# Altium integrated library Texas Instruments Power Management PWM Controller.IntLib: 1227 symbols (part 4 of 49)
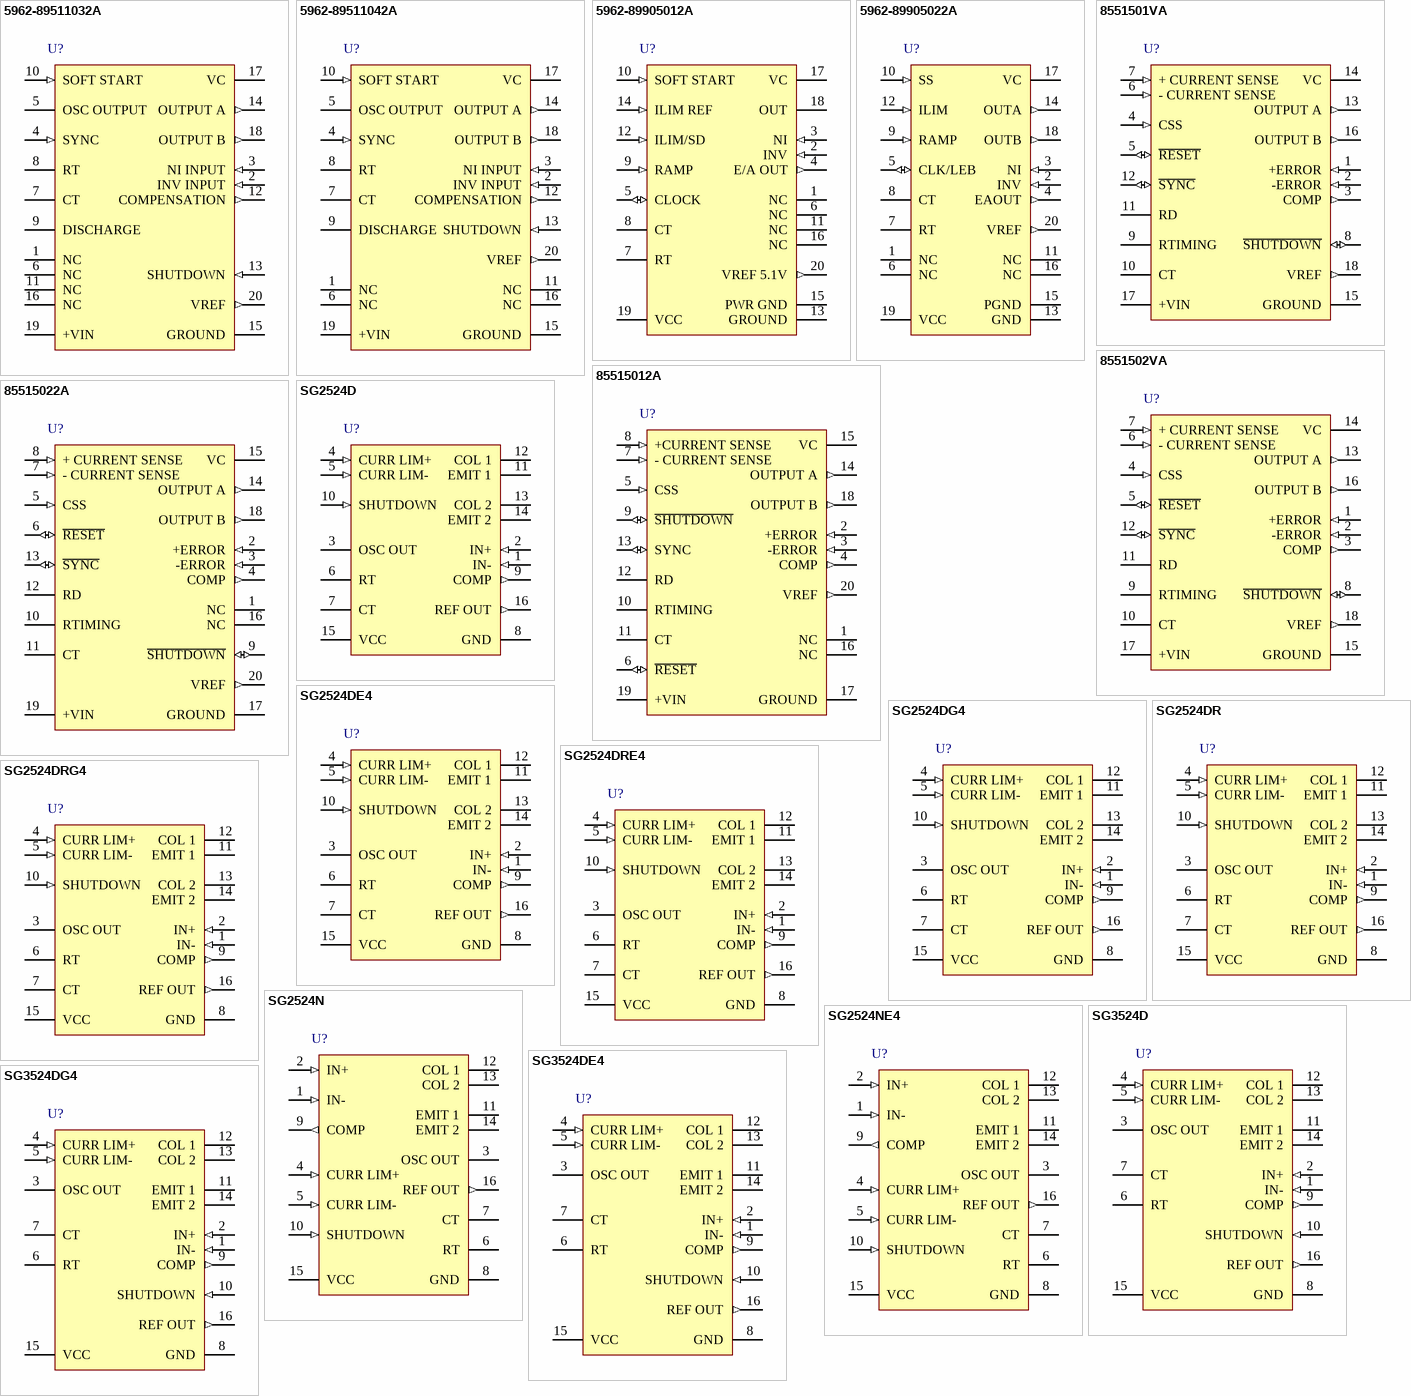
[diagram p46: symbols 5962-89511032A to SG3524DG4]

## SG2524N
designator U?
Regulating Pulse-Width Modulator with Voltage Control, 45 % Duty Cycle, -25 to +85 degC, 16-pin PDIP (N), Pb-Free (RoHS); PartNumber: SG2524N; Manufacturer: Texas Instruments; Duty Cycle(Max)(%): 45; Frequency(Max)(kHz): 722; Rating: Catalog; Regulated Outputs(#): 2; SubFamily: PWM Controller; Topology: Boost, Buck, Flyback, Forward, Full-Bridge, Half-Bridge, Push-Pull; DatasheetVersion: SLVS077D; PackageVersion: revE, Dec-2002; PackageReference: N16; PackageDescription: 16-Pin Plastic Dual-In-Line Package, Row Spacing 7.62 mm, Pitch 2.54 mm; Supplier 1: Digi-Key; Supplier Part Number 1: 296-9685-5-ND; Supplier 2: Farnell; Supplier Part Number 2: 1564865; Supplier 3: Newark; Supplier Part Number 3: 60K6775; Supplier 4: Mouser; Supplier Part Number 4: 595-SG2524N; Control Method: Voltage; Eco-Plan: Pb-Free (RoHS); Mounting Technology: Through Hole; Code_JEDEC: MS-001*; ComponentLink1Description: Datasheet; ComponentLink1URL: http://www.ti.com/general/docs/lit/getliterature.tsp?genericPartNumber=SG2524&fileType=pdf
footprint N16 (DIP, 16-Leads, Row Spacing 7.62mm, Pitch 2.54mm, Body 19.3x6.4mm)
pins: 1 IN- (in), 2 IN+ (in), 3 OSC OUT, 4 CURR LIM+ (in), 5 CURR LIM- (in), 6 RT, 7 CT, 8 GND (power), 9 COMP (out), 10 SHUTDOWN (in), 11 EMIT 1, 12 COL 1, 13 COL 2, 14 EMIT 2, 15 VCC (power), 16 REF OUT (out)

## SG2524NE4
designator U?
Regulating Pulse-Width Modulator with Voltage Control, 99 % Duty Cycle, -40 to +85 degC, 16-pin PDIP (N), Green (RoHS & no Sb/Br); PartNumber: SG2524NE4; Manufacturer: Texas Instruments; Duty Cycle(Max)(%): 45; Eco-Plan: Pb-Free (RoHS); Frequency(Max)(kHz): 722; Rating: Catalog; Regulated Outputs(#): 2; SubFamily: PWM Controller; Topology: Boost, Buck, Flyback, Forward, Full-Bridge, Half-Bridge, Push-Pull; DatasheetVersion: SLVS077D; PackageVersion: revE, Dec-2002; PackageReference: N16; PackageDescription: 16-Pin Plastic Dual-In-Line Package, Row Spacing 7.62 mm, Pitch 2.54 mm; Supplier 1: Digi-Key; Supplier Part Number 1: SG2524NE4-ND; Supplier 2: Newark; Supplier Part Number 2: 37K0799; Supplier 3: Mouser; Supplier Part Number 3: 595-SG2524NE4; Control Method: Voltage; Mounting Technology: Through Hole; Code_JEDEC: MS-001*; ComponentLink1Description: Datasheet; ComponentLink1URL: http://www.ti.com/general/docs/lit/getliterature.tsp?genericPartNumber=SG2524&fileType=pdf
footprint N16 (DIP, 16-Leads, Row Spacing 7.62mm, Pitch 2.54mm, Body 19.3x6.4mm)
pins: 1 IN- (in), 2 IN+ (in), 3 OSC OUT, 4 CURR LIM+ (in), 5 CURR LIM- (in), 6 RT, 7 CT, 8 GND (power), 9 COMP (out), 10 SHUTDOWN (in), 11 EMIT 1, 12 COL 1, 13 COL 2, 14 EMIT 2, 15 VCC (power), 16 REF OUT (out)

## SG3524D
designator U?
Regulating Pulse-Width Modulator with Voltage Control, 45 % Duty Cycle, 0 to +70 degC, 16-pin SOIC (D), Green (RoHS & no Sb/Br); PartNumber: SG3524D; Manufacturer: Texas Instruments; Duty Cycle(Max)(%): 45; Frequency(Max)(kHz): 722; Rating: Catalog; Regulated Outputs(#): 2; SubFamily: PWM Controller; Topology: Boost, Buck, Flyback, Forward, Full-Bridge, Half-Bridge, Push-Pull; DatasheetVersion: SLVS077D; PackageVersion: revM, Jun-2011; PackageReference: D16; PackageDescription: 16-Pin Plastic Small Outline Integrated Circuit, 9.9 x 3.9 mm, Pitch 1.27 mm Pitch; Supplier 1: Digi-Key; Supplier Part Number 1: 296-9686-5-ND; Supplier 2: Farnell; Supplier Part Number 2: 1103188; Supplier 3: Newark; Supplier Part Number 3: 97K9739; Supplier 4: Mouser; Supplier Part Number 4: 595-SG3524D; Control Method: Voltage; Eco-Plan: Green (RoHS & no Sb/Br); Mounting Technology: Surface Mount; Code_JEDEC: MS-012AC; ComponentLink1Description: Datasheet; ComponentLink1URL: http://www.ti.com/general/docs/lit/getliterature.tsp?genericPartNumber=SG3524&fileType=pdf
footprint D16_N (SOIC, 16-Leads, Body 9.9x3.9mm, Pitch 1.27mm, IPC Medium Density)
footprint D16_L (SOIC, 16-Leads, Body 9.9x3.9mm, Pitch 1.27mm, IPC High Density)
footprint D16_M (SOIC, 16-Leads, Body 9.9x3.9mm, Pitch 1.27mm, IPC Low Density)
pins: 1 IN- (in), 2 IN+ (in), 3 OSC OUT, 4 CURR LIM+ (in), 5 CURR LIM- (in), 6 RT, 7 CT, 8 GND (power), 9 COMP (out), 10 SHUTDOWN (in), 11 EMIT 1, 12 COL 1, 13 COL 2, 14 EMIT 2, 15 VCC (power), 16 REF OUT (out)

## SG3524DE4
designator U?
Regulating Pulse-Width Modulator with Voltage Control, 45 % Duty Cycle, 0 to +70 degC, 16-pin SOIC (D), Green (RoHS & no Sb/Br); PartNumber: SG3524DE4; Manufacturer: Texas Instruments; Duty Cycle(Max)(%): 45; Frequency(Max)(kHz): 722; Rating: Catalog; Regulated Outputs(#): 2; SubFamily: PWM Controller; Topology: Boost, Buck, Flyback, Forward, Full-Bridge, Half-Bridge, Push-Pull; DatasheetVersion: SLVS077D; PackageVersion: revM, Jun-2011; PackageReference: D16; PackageDescription: 16-Pin Plastic Small Outline Integrated Circuit, 9.9 x 3.9 mm, Pitch 1.27 mm Pitch; Supplier 1: Digi-Key; Supplier Part Number 1: SG3524DE4-ND; Supplier 2: Newark; Supplier Part Number 2: 37K0800; Supplier 3: Mouser; Supplier Part Number 3: 595-SG3524DE4; Control Method: Voltage; Eco-Plan: Green (RoHS & no Sb/Br); Mounting Technology: Surface Mount; Code_JEDEC: MS-012AC; ComponentLink1Description: Datasheet; ComponentLink1URL: http://www.ti.com/general/docs/lit/getliterature.tsp?genericPartNumber=SG3524&fileType=pdf
footprint D16_N (SOIC, 16-Leads, Body 9.9x3.9mm, Pitch 1.27mm, IPC Medium Density)
footprint D16_L (SOIC, 16-Leads, Body 9.9x3.9mm, Pitch 1.27mm, IPC High Density)
footprint D16_M (SOIC, 16-Leads, Body 9.9x3.9mm, Pitch 1.27mm, IPC Low Density)
pins: 1 IN- (in), 2 IN+ (in), 3 OSC OUT, 4 CURR LIM+ (in), 5 CURR LIM- (in), 6 RT, 7 CT, 8 GND (power), 9 COMP (out), 10 SHUTDOWN (in), 11 EMIT 1, 12 COL 1, 13 COL 2, 14 EMIT 2, 15 VCC (power), 16 REF OUT (out)

## SG3524DG4
designator U?
Regulating Pulse-Width Modulator with Voltage Control, 45 % Duty Cycle, 0 to +70 degC, 16-pin SOIC (D), Green (RoHS & no Sb/Br); PartNumber: SG3524DG4; Manufacturer: Texas Instruments; Duty Cycle(Max)(%): 45; Frequency(Max)(kHz): 722; Rating: Catalog; Regulated Outputs(#): 2; SubFamily: PWM Controller; Topology: Boost, Buck, Flyback, Forward, Full-Bridge, Half-Bridge, Push-Pull; DatasheetVersion: SLVS077D; PackageVersion: revM, Jun-2011; PackageReference: D16; PackageDescription: 16-Pin Plastic Small Outline Integrated Circuit, 9.9 x 3.9 mm, Pitch 1.27 mm Pitch; Supplier 1: Digi-Key; Supplier Part Number 1: SG3524DG4-ND; Supplier 2: Newark; Supplier Part Number 2: 41M4260; Supplier 3: Mouser; Supplier Part Number 3: 595-SG3524DG4; Control Method: Voltage; Eco-Plan: Green (RoHS & no Sb/Br); Mounting Technology: Surface Mount; Code_JEDEC: MS-012AC; ComponentLink1Description: Datasheet; ComponentLink1URL: http://www.ti.com/general/docs/lit/getliterature.tsp?genericPartNumber=SG3524&fileType=pdf
footprint D16_N (SOIC, 16-Leads, Body 9.9x3.9mm, Pitch 1.27mm, IPC Medium Density)
footprint D16_L (SOIC, 16-Leads, Body 9.9x3.9mm, Pitch 1.27mm, IPC High Density)
footprint D16_M (SOIC, 16-Leads, Body 9.9x3.9mm, Pitch 1.27mm, IPC Low Density)
pins: 1 IN- (in), 2 IN+ (in), 3 OSC OUT, 4 CURR LIM+ (in), 5 CURR LIM- (in), 6 RT, 7 CT, 8 GND (power), 9 COMP (out), 10 SHUTDOWN (in), 11 EMIT 1, 12 COL 1, 13 COL 2, 14 EMIT 2, 15 VCC (power), 16 REF OUT (out)

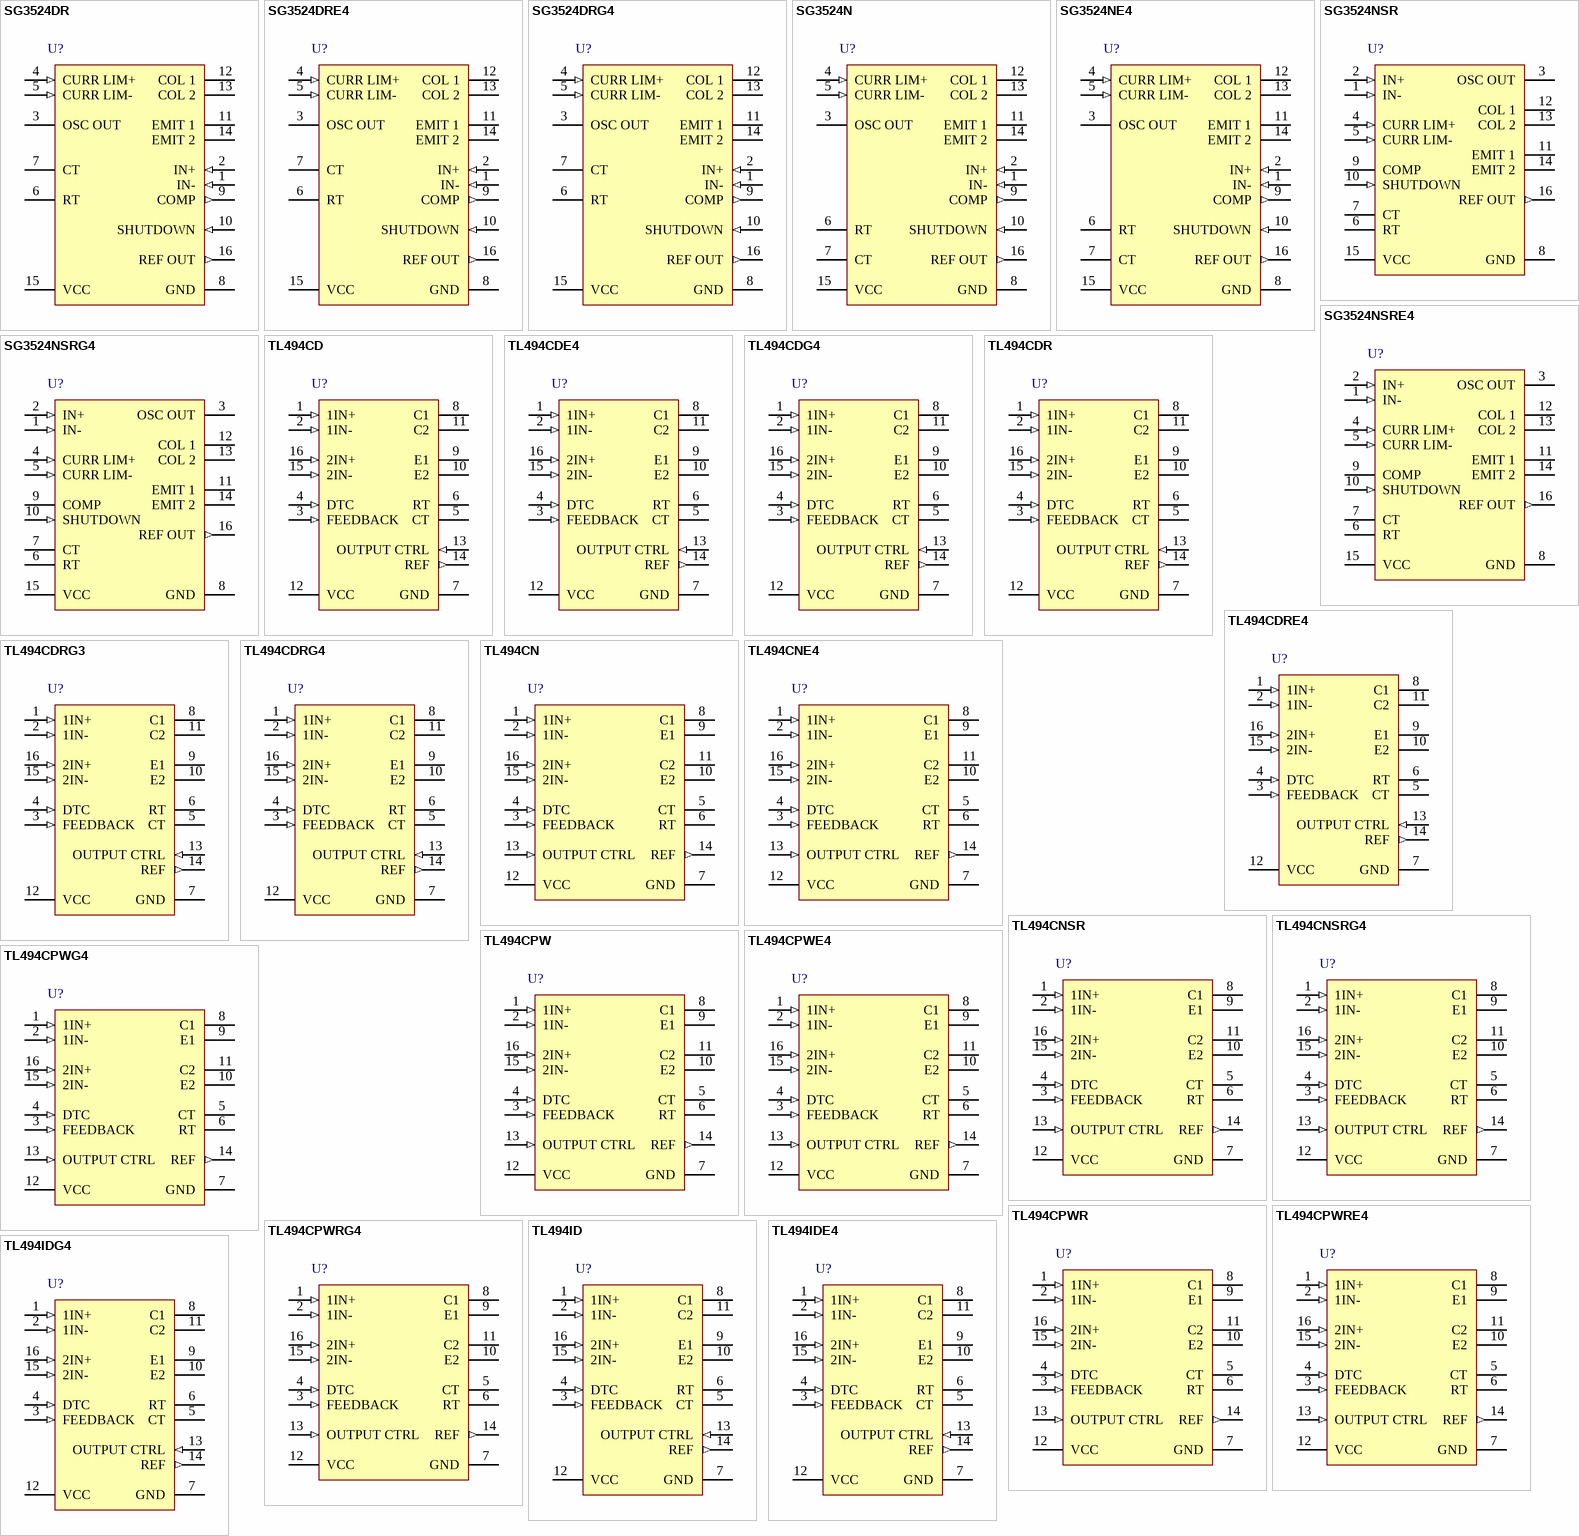
[diagram p4: symbols SG3524DR to TL494IDG4]

## SG3524DR
designator U?
Regulating Pulse-Width Modulator with Voltage Control, 45 % Duty Cycle, 0 to +70 degC, 16-pin SOIC (D), Green (RoHS & no Sb/Br); PartNumber: SG3524DR; Manufacturer: Texas Instruments; Duty Cycle(Max)(%): 45; Frequency(Max)(kHz): 722; Rating: Catalog; Regulated Outputs(#): 2; SubFamily: PWM Controller; Topology: Boost, Buck, Flyback, Forward, Full-Bridge, Half-Bridge, Push-Pull; DatasheetVersion: SLVS077D; PackageVersion: revM, Jun-2011; PackageReference: D16; PackageDescription: 16-Pin Plastic Small Outline Integrated Circuit, 9.9 x 3.9 mm, Pitch 1.27 mm Pitch; Supplier 1: Digi-Key; Supplier Part Number 1: 296-26329-2-ND; Supplier 2: Digi-Key; Supplier Part Number 2: 296-26329-1-ND; Supplier 3: Digi-Key; Supplier Part Number 3: 296-26329-6-ND; Supplier 4: Newark; Supplier Part Number 4: 75C7654; Supplier 5: Mouser; Supplier Part Number 5: 595-SG3524DR; Control Method: Voltage; Eco-Plan: Green (RoHS & no Sb/Br); Mounting Technology: Surface Mount; Code_JEDEC: MS-012AC; ComponentLink1Description: Datasheet; ComponentLink1URL: http://www.ti.com/general/docs/lit/getliterature.tsp?genericPartNumber=SG3524&fileType=pdf
footprint D16_N (SOIC, 16-Leads, Body 9.9x3.9mm, Pitch 1.27mm, IPC Medium Density)
footprint D16_L (SOIC, 16-Leads, Body 9.9x3.9mm, Pitch 1.27mm, IPC High Density)
footprint D16_M (SOIC, 16-Leads, Body 9.9x3.9mm, Pitch 1.27mm, IPC Low Density)
pins: 1 IN- (in), 2 IN+ (in), 3 OSC OUT, 4 CURR LIM+ (in), 5 CURR LIM- (in), 6 RT, 7 CT, 8 GND (power), 9 COMP (out), 10 SHUTDOWN (in), 11 EMIT 1, 12 COL 1, 13 COL 2, 14 EMIT 2, 15 VCC (power), 16 REF OUT (out)

## SG3524DRE4
designator U?
Regulating Pulse-Width Modulator with Voltage Control, 45 % Duty Cycle, 0 to +70 degC, 16-pin SOIC (D), Green (RoHS & no Sb/Br); PartNumber: SG3524DRE4; Manufacturer: Texas Instruments; Duty Cycle(Max)(%): 45; Frequency(Max)(kHz): 722; Rating: Catalog; Regulated Outputs(#): 2; SubFamily: PWM Controller; Topology: Boost, Buck, Flyback, Forward, Full-Bridge, Half-Bridge, Push-Pull; DatasheetVersion: SLVS077D; PackageVersion: revM, Jun-2011; PackageReference: D16; PackageDescription: 16-Pin Plastic Small Outline Integrated Circuit, 9.9 x 3.9 mm, Pitch 1.27 mm Pitch; Supplier 1: Digi-Key; Supplier Part Number 1: SG3524DRE4-ND; Supplier 2: Newark; Supplier Part Number 2: 37K0801; Supplier 3: Mouser; Supplier Part Number 3: 595-SG3524DRE4; Control Method: Voltage; Eco-Plan: Green (RoHS & no Sb/Br); Mounting Technology: Surface Mount; Code_JEDEC: MS-012AC; ComponentLink1Description: Datasheet; ComponentLink1URL: http://www.ti.com/general/docs/lit/getliterature.tsp?genericPartNumber=SG3524&fileType=pdf
footprint D16_N (SOIC, 16-Leads, Body 9.9x3.9mm, Pitch 1.27mm, IPC Medium Density)
footprint D16_L (SOIC, 16-Leads, Body 9.9x3.9mm, Pitch 1.27mm, IPC High Density)
footprint D16_M (SOIC, 16-Leads, Body 9.9x3.9mm, Pitch 1.27mm, IPC Low Density)
pins: 1 IN- (in), 2 IN+ (in), 3 OSC OUT, 4 CURR LIM+ (in), 5 CURR LIM- (in), 6 RT, 7 CT, 8 GND (power), 9 COMP (out), 10 SHUTDOWN (in), 11 EMIT 1, 12 COL 1, 13 COL 2, 14 EMIT 2, 15 VCC (power), 16 REF OUT (out)

## SG3524DRG4
designator U?
Regulating Pulse-Width Modulator with Voltage Control, 45 % Duty Cycle, 0 to +70 degC, 16-pin SOIC (D), Green (RoHS & no Sb/Br); PartNumber: SG3524DRG4; Manufacturer: Texas Instruments; Duty Cycle(Max)(%): 45; Frequency(Max)(kHz): 722; Rating: Catalog; Regulated Outputs(#): 2; SubFamily: PWM Controller; Topology: Boost, Buck, Flyback, Forward, Full-Bridge, Half-Bridge, Push-Pull; DatasheetVersion: SLVS077D; PackageVersion: revM, Jun-2011; PackageReference: D16; PackageDescription: 16-Pin Plastic Small Outline Integrated Circuit, 9.9 x 3.9 mm, Pitch 1.27 mm Pitch; Supplier 1: Digi-Key; Supplier Part Number 1: SG3524DRG4-ND; Supplier 2: Newark; Supplier Part Number 2: 41M4261; Supplier 3: Mouser; Supplier Part Number 3: 595-SG3524DRG4; Control Method: Voltage; Eco-Plan: Green (RoHS & no Sb/Br); Mounting Technology: Surface Mount; Code_JEDEC: MS-012AC; ComponentLink1Description: Datasheet; ComponentLink1URL: http://www.ti.com/general/docs/lit/getliterature.tsp?genericPartNumber=SG3524&fileType=pdf
footprint D16_N (SOIC, 16-Leads, Body 9.9x3.9mm, Pitch 1.27mm, IPC Medium Density)
footprint D16_L (SOIC, 16-Leads, Body 9.9x3.9mm, Pitch 1.27mm, IPC High Density)
footprint D16_M (SOIC, 16-Leads, Body 9.9x3.9mm, Pitch 1.27mm, IPC Low Density)
pins: 1 IN- (in), 2 IN+ (in), 3 OSC OUT, 4 CURR LIM+ (in), 5 CURR LIM- (in), 6 RT, 7 CT, 8 GND (power), 9 COMP (out), 10 SHUTDOWN (in), 11 EMIT 1, 12 COL 1, 13 COL 2, 14 EMIT 2, 15 VCC (power), 16 REF OUT (out)

## SG3524N
designator U?
Regulating Pulse-Width Modulator with Voltage Control, 45 % Duty Cycle, 0 to +70 degC, 16-pin PDIP (N), Pb-Free (RoHS); PartNumber: SG3524N; Manufacturer: Texas Instruments; Duty Cycle(Max)(%): 45; Frequency(Max)(kHz): 722; Rating: Catalog; Regulated Outputs(#): 2; SubFamily: PWM Controller; Topology: Boost, Buck, Flyback, Forward, Full-Bridge, Half-Bridge, Push-Pull; DatasheetVersion: SLVS077D; PackageVersion: revE, Dec-2002; PackageReference: N16; PackageDescription: 16-Pin Plastic Dual-In-Line Package, Row Spacing 7.62 mm, Pitch 2.54 mm; Supplier 1: Digi-Key; Supplier Part Number 1: 296-9687-5-ND; Supplier 2: Farnell; Supplier Part Number 2: 1106088; Supplier 3: Farnell; Supplier Part Number 3: 2127607; Supplier 4: Newark; Supplier Part Number 4: 60K6778; Supplier 5: Mouser; Supplier Part Number 5: 595-SG3524N; Control Method: Voltage; Eco-Plan: Pb-Free (RoHS); Mounting Technology: Through Hole; Code_JEDEC: MS-001*; ComponentLink1Description: Datasheet; ComponentLink1URL: http://www.ti.com/general/docs/lit/getliterature.tsp?genericPartNumber=SG3524&fileType=pdf
footprint N16 (DIP, 16-Leads, Row Spacing 7.62mm, Pitch 2.54mm, Body 19.3x6.4mm)
pins: 1 IN- (in), 2 IN+ (in), 3 OSC OUT, 4 CURR LIM+ (in), 5 CURR LIM- (in), 6 RT, 7 CT, 8 GND (power), 9 COMP (out), 10 SHUTDOWN (in), 11 EMIT 1, 12 COL 1, 13 COL 2, 14 EMIT 2, 15 VCC (power), 16 REF OUT (out)

## SG3524NE4
designator U?
Regulating Pulse-Width Modulator with Voltage Control, 45 % Duty Cycle, 0 to +70 degC, 16-pin PDIP (N), Pb-Free (RoHS); PartNumber: SG3524NE4; Manufacturer: Texas Instruments; Duty Cycle(Max)(%): 45; Frequency(Max)(kHz): 722; Rating: Catalog; Regulated Outputs(#): 2; SubFamily: PWM Controller; Topology: Boost, Buck, Flyback, Forward, Full-Bridge, Half-Bridge, Push-Pull; DatasheetVersion: SLVS077D; PackageVersion: revE, Dec-2002; PackageReference: N16; PackageDescription: 16-Pin Plastic Dual-In-Line Package, Row Spacing 7.62 mm, Pitch 2.54 mm; Supplier 1: Digi-Key; Supplier Part Number 1: SG3524NE4-ND; Supplier 2: Newark; Supplier Part Number 2: 63K6147; Supplier 3: Mouser; Supplier Part Number 3: 595-SG3524NE4; Control Method: Voltage; Eco-Plan: Pb-Free (RoHS); Mounting Technology: Through Hole; Code_JEDEC: MS-001*; ComponentLink1Description: Datasheet; ComponentLink1URL: http://www.ti.com/general/docs/lit/getliterature.tsp?genericPartNumber=SG3524&fileType=pdf
footprint N16 (DIP, 16-Leads, Row Spacing 7.62mm, Pitch 2.54mm, Body 19.3x6.4mm)
pins: 1 IN- (in), 2 IN+ (in), 3 OSC OUT, 4 CURR LIM+ (in), 5 CURR LIM- (in), 6 RT, 7 CT, 8 GND (power), 9 COMP (out), 10 SHUTDOWN (in), 11 EMIT 1, 12 COL 1, 13 COL 2, 14 EMIT 2, 15 VCC (power), 16 REF OUT (out)

## SG3524NSR
designator U?
Regulating Pulse-Width Modulator with Voltage Control, 45 % Duty Cycle, 0 to +70 degC, 16-pin SO (NS), Green (RoHS & no Sb/Br); PartNumber: SG3524NSR; Manufacturer: Texas Instruments; Duty Cycle(Max)(%): 45; Frequency(Max)(kHz): 722; Rating: Catalog; Regulated Outputs(#): 2; SubFamily: PWM Controller; Topology: Boost, Buck, Flyback, Forward, Full-Bridge, Half-Bridge, Push-Pull; DatasheetVersion: SLVS077D; PackageVersion: revC, Mar-2003; PackageReference: NS16; PackageDescription: 16-Pin Plastic Small Outline Package, 10.2 x 5.3 mm, Pitch 1.27 mm Pitch; Supplier 1: Digi-Key; Supplier Part Number 1: SG3524NSR-ND; Supplier 2: Newark; Supplier Part Number 2: 21H7865; Supplier 3: Mouser; Supplier Part Number 3: 595-SG3524NSR; Control Method: Voltage; Eco-Plan: Green (RoHS & no Sb/Br); Mounting Technology: Surface Mount; ComponentLink1Description: Datasheet; ComponentLink1URL: http://www.ti.com/general/docs/lit/getliterature.tsp?genericPartNumber=SG3524&fileType=pdf
footprint NS16_N (SOP, 16-Leads, Body 10.2x5.3mm, Pitch 1.27mm, IPC Medium Density)
footprint NS16_L (SOP, 16-Leads, Body 10.2x5.3mm, Pitch 1.27mm, IPC High Density)
footprint NS16_M (SOP, 16-Leads, Body 10.2x5.3mm, Pitch 1.27mm, IPC Low Density)
pins: 1 IN- (in), 2 IN+ (in), 3 OSC OUT, 4 CURR LIM+ (in), 5 CURR LIM- (in), 6 RT, 7 CT, 8 GND (power), 9 COMP, 10 SHUTDOWN (in), 11 EMIT 1, 12 COL 1, 13 COL 2, 14 EMIT 2, 15 VCC (power), 16 REF OUT (out)

## SG3524NSRE4
designator U?
Regulating Pulse-Width Modulator with Voltage Control, 45 % Duty Cycle, 0 to +70 degC, 16-pin SO (NS), Green (RoHS & no Sb/Br); PartNumber: SG3524NSRE4; Manufacturer: Texas Instruments; Duty Cycle(Max)(%): 45; Frequency(Max)(kHz): 722; Rating: Catalog; Regulated Outputs(#): 2; SubFamily: PWM Controller; Topology: Boost, Buck, Flyback, Forward, Full-Bridge, Half-Bridge, Push-Pull; DatasheetVersion: SLVS077D; PackageVersion: revC, Mar-2003; PackageReference: NS16; PackageDescription: 16-Pin Plastic Small Outline Package, 10.2 x 5.3 mm, Pitch 1.27 mm Pitch; Supplier 1: Digi-Key; Supplier Part Number 1: SG3524NSRE4-ND; Supplier 2: Newark; Supplier Part Number 2: 40K8588; Supplier 3: Mouser; Supplier Part Number 3: 595-SG3524NSRE4; Control Method: Voltage; Eco-Plan: Green (RoHS & no Sb/Br); Mounting Technology: Surface Mount; ComponentLink1Description: Datasheet; ComponentLink1URL: http://www.ti.com/general/docs/lit/getliterature.tsp?genericPartNumber=SG3524&fileType=pdf
footprint NS16_N (SOP, 16-Leads, Body 10.2x5.3mm, Pitch 1.27mm, IPC Medium Density)
footprint NS16_L (SOP, 16-Leads, Body 10.2x5.3mm, Pitch 1.27mm, IPC High Density)
footprint NS16_M (SOP, 16-Leads, Body 10.2x5.3mm, Pitch 1.27mm, IPC Low Density)
pins: 1 IN- (in), 2 IN+ (in), 3 OSC OUT, 4 CURR LIM+ (in), 5 CURR LIM- (in), 6 RT, 7 CT, 8 GND (power), 9 COMP, 10 SHUTDOWN (in), 11 EMIT 1, 12 COL 1, 13 COL 2, 14 EMIT 2, 15 VCC (power), 16 REF OUT (out)

## SG3524NSRG4
designator U?
Regulating Pulse-Width Modulator with Voltage Control, 45 % Duty Cycle, 0 to +70 degC, 16-pin SO (NS), Green (RoHS & no Sb/Br); PartNumber: SG3524NSRG4; Manufacturer: Texas Instruments; Duty Cycle(Max)(%): 45; Frequency(Max)(kHz): 722; Rating: Catalog; Regulated Outputs(#): 2; SubFamily: PWM Controller; Topology: Boost, Buck, Flyback, Forward, Full-Bridge, Half-Bridge, Push-Pull; DatasheetVersion: SLVS077D; PackageVersion: revC, Mar-2003; PackageReference: NS16; PackageDescription: 16-Pin Plastic Small Outline Package, 10.2 x 5.3 mm, Pitch 1.27 mm Pitch; Supplier 1: Digi-Key; Supplier Part Number 1: SG3524NSRG4-ND; Supplier 2: Newark; Supplier Part Number 2: 46M6858; Supplier 3: Mouser; Supplier Part Number 3: 595-SG3524NSRG4; Control Method: Voltage; Eco-Plan: Green (RoHS & no Sb/Br); Mounting Technology: Surface Mount; ComponentLink1Description: Datasheet; ComponentLink1URL: http://www.ti.com/general/docs/lit/getliterature.tsp?genericPartNumber=SG3524&fileType=pdf
footprint NS16_N (SOP, 16-Leads, Body 10.2x5.3mm, Pitch 1.27mm, IPC Medium Density)
footprint NS16_L (SOP, 16-Leads, Body 10.2x5.3mm, Pitch 1.27mm, IPC High Density)
footprint NS16_M (SOP, 16-Leads, Body 10.2x5.3mm, Pitch 1.27mm, IPC Low Density)
pins: 1 IN- (in), 2 IN+ (in), 3 OSC OUT, 4 CURR LIM+ (in), 5 CURR LIM- (in), 6 RT, 7 CT, 8 GND (power), 9 COMP, 10 SHUTDOWN (in), 11 EMIT 1, 12 COL 1, 13 COL 2, 14 EMIT 2, 15 VCC (power), 16 REF OUT (out)

## TL494CD
designator U?
Pulse-Width-Modulation Control Circuit with Voltage Control, 45 % Duty Cycle, 0 to +70 degC, 16-pin SOIC (D), Green (RoHS & no Sb/Br); PartNumber: TL494CD; Manufacturer: Texas Instruments; Duty Cycle(Max)(%): 45; Frequency(Max)(kHz): 300; Rating: Military; Regulated Outputs(#): 2; SubFamily: PWM Controller; Topology: Boost, Buck, Flyback, Forward, Full-Bridge, Half-Bridge, Push-Pull; DatasheetVersion: SLVS074E; PackageVersion: revM, Jun-2011; PackageReference: D16; PackageDescription: 16-Pin Plastic Small Outline Integrated Circuit, 9.9 x 3.9 mm, Pitch 1.27 mm Pitch; Supplier 1: Digi-Key; Supplier Part Number 1: 296-1293-5-ND; Supplier 2: Farnell; Supplier Part Number 2: 1470531; Supplier 3: Newark; Supplier Part Number 3: 67K2881; Supplier 4: Mouser; Supplier Part Number 4: 595-TL494CD; Control Method: Voltage; Eco-Plan: Green (RoHS & no Sb/Br); Mounting Technology: Surface Mount; Code_JEDEC: MS-012AC; ComponentLink1Description: Datasheet; ComponentLink1URL: http://www.ti.com/general/docs/lit/getliterature.tsp?genericPartNumber=TL494&fileType=pdf
footprint D16_N (SOIC, 16-Leads, Body 9.9x3.9mm, Pitch 1.27mm, IPC Medium Density)
footprint D16_L (SOIC, 16-Leads, Body 9.9x3.9mm, Pitch 1.27mm, IPC High Density)
footprint D16_M (SOIC, 16-Leads, Body 9.9x3.9mm, Pitch 1.27mm, IPC Low Density)
pins: 1 1IN+ (in), 2 1IN- (in), 3 FEEDBACK (in), 4 DTC (in), 5 CT, 6 RT, 7 GND (power), 8 C1, 9 E1, 10 E2, 11 C2, 12 VCC (power), 13 OUTPUT CTRL (in), 14 REF (out), 15 2IN- (in), 16 2IN+ (in)

## TL494CDE4
designator U?
Pulse-Width-Modulation Control Circuit with Voltage Control, 45 % Duty Cycle, 0 to +70 degC, 16-pin SOIC (D), Green (RoHS & no Sb/Br); PartNumber: TL494CDE4; Manufacturer: Texas Instruments; Duty Cycle(Max)(%): 45; Frequency(Max)(kHz): 300; Rating: Military; Regulated Outputs(#): 2; SubFamily: PWM Controller; Topology: Boost, Buck, Flyback, Forward, Full-Bridge, Half-Bridge, Push-Pull; DatasheetVersion: SLVS074E; PackageVersion: revM, Jun-2011; PackageReference: D16; PackageDescription: 16-Pin Plastic Small Outline Integrated Circuit, 9.9 x 3.9 mm, Pitch 1.27 mm Pitch; Supplier 1: Digi-Key; Supplier Part Number 1: TL494CDE4-ND; Supplier 2: Newark; Supplier Part Number 2: 37K4538; Supplier 3: Mouser; Supplier Part Number 3: 595-TL494CDE4; Control Method: Voltage; Eco-Plan: Green (RoHS & no Sb/Br); Mounting Technology: Surface Mount; Code_JEDEC: MS-012AC; ComponentLink1Description: Datasheet; ComponentLink1URL: http://www.ti.com/general/docs/lit/getliterature.tsp?genericPartNumber=TL494&fileType=pdf
footprint D16_N (SOIC, 16-Leads, Body 9.9x3.9mm, Pitch 1.27mm, IPC Medium Density)
footprint D16_L (SOIC, 16-Leads, Body 9.9x3.9mm, Pitch 1.27mm, IPC High Density)
footprint D16_M (SOIC, 16-Leads, Body 9.9x3.9mm, Pitch 1.27mm, IPC Low Density)
pins: 1 1IN+ (in), 2 1IN- (in), 3 FEEDBACK (in), 4 DTC (in), 5 CT, 6 RT, 7 GND (power), 8 C1, 9 E1, 10 E2, 11 C2, 12 VCC (power), 13 OUTPUT CTRL (in), 14 REF (out), 15 2IN- (in), 16 2IN+ (in)

## TL494CDG4
designator U?
Pulse-Width-Modulation Control Circuit with Voltage Control, 45 % Duty Cycle, 0 to +70 degC, 16-pin SOIC (D), Green (RoHS & no Sb/Br); PartNumber: TL494CDG4; Manufacturer: Texas Instruments; Duty Cycle(Max)(%): 45; Frequency(Max)(kHz): 300; Rating: Military; Regulated Outputs(#): 2; SubFamily: PWM Controller; Topology: Boost, Buck, Flyback, Forward, Full-Bridge, Half-Bridge, Push-Pull; DatasheetVersion: SLVS074E; PackageVersion: revM, Jun-2011; PackageReference: D16; PackageDescription: 16-Pin Plastic Small Outline Integrated Circuit, 9.9 x 3.9 mm, Pitch 1.27 mm Pitch; Supplier 1: Digi-Key; Supplier Part Number 1: TL494CDG4-ND; Supplier 2: Farnell; Supplier Part Number 2: 9593624; Supplier 3: Newark; Supplier Part Number 3: 98K1693; Supplier 4: Newark; Supplier Part Number 4: 41M5753; Supplier 5: Mouser; Supplier Part Number 5: 595-TL494CDG4; Control Method: Voltage; Eco-Plan: Green (RoHS & no Sb/Br); Mounting Technology: Surface Mount; Code_JEDEC: MS-012AC; ComponentLink1Description: Datasheet; ComponentLink1URL: http://www.ti.com/general/docs/lit/getliterature.tsp?genericPartNumber=TL494&fileType=pdf
footprint D16_N (SOIC, 16-Leads, Body 9.9x3.9mm, Pitch 1.27mm, IPC Medium Density)
footprint D16_L (SOIC, 16-Leads, Body 9.9x3.9mm, Pitch 1.27mm, IPC High Density)
footprint D16_M (SOIC, 16-Leads, Body 9.9x3.9mm, Pitch 1.27mm, IPC Low Density)
pins: 1 1IN+ (in), 2 1IN- (in), 3 FEEDBACK (in), 4 DTC (in), 5 CT, 6 RT, 7 GND (power), 8 C1, 9 E1, 10 E2, 11 C2, 12 VCC (power), 13 OUTPUT CTRL (in), 14 REF (out), 15 2IN- (in), 16 2IN+ (in)

## TL494CDR
designator U?
Pulse-Width-Modulation Control Circuit with Voltage Control, 45 % Duty Cycle, 0 to +70 degC, 16-pin SOIC (D), Green (RoHS & no Sb/Br); PartNumber: TL494CDR; Manufacturer: Texas Instruments; Duty Cycle(Max)(%): 45; Frequency(Max)(kHz): 300; Rating: Military; Regulated Outputs(#): 2; SubFamily: PWM Controller; Topology: Boost, Buck, Flyback, Forward, Full-Bridge, Half-Bridge, Push-Pull; DatasheetVersion: SLVS074E; PackageVersion: revM, Jun-2011; PackageReference: D16; PackageDescription: 16-Pin Plastic Small Outline Integrated Circuit, 9.9 x 3.9 mm, Pitch 1.27 mm Pitch; Supplier 1: Digi-Key; Supplier Part Number 1: 296-1293-2-ND; Supplier 2: Digi-Key; Supplier Part Number 2: 296-1293-1-ND; Supplier 3: Digi-Key; Supplier Part Number 3: 296-1293-6-ND; Supplier 4: Farnell; Supplier Part Number 4: 4811458; Supplier 5: Newark; Supplier Part Number 5: 35C2190; Supplier 6: Mouser; Supplier Part Number 6: 595-TL494CDR; Control Method: Voltage; Eco-Plan: Green (RoHS & no Sb/Br); Mounting Technology: Surface Mount; Code_JEDEC: MS-012AC; ComponentLink1Description: Datasheet; ComponentLink1URL: http://www.ti.com/general/docs/lit/getliterature.tsp?genericPartNumber=TL494&fileType=pdf
footprint D16_N (SOIC, 16-Leads, Body 9.9x3.9mm, Pitch 1.27mm, IPC Medium Density)
footprint D16_L (SOIC, 16-Leads, Body 9.9x3.9mm, Pitch 1.27mm, IPC High Density)
footprint D16_M (SOIC, 16-Leads, Body 9.9x3.9mm, Pitch 1.27mm, IPC Low Density)
pins: 1 1IN+ (in), 2 1IN- (in), 3 FEEDBACK (in), 4 DTC (in), 5 CT, 6 RT, 7 GND (power), 8 C1, 9 E1, 10 E2, 11 C2, 12 VCC (power), 13 OUTPUT CTRL (in), 14 REF (out), 15 2IN- (in), 16 2IN+ (in)

## TL494CDRE4
designator U?
Pulse-Width-Modulation Control Circuit with Voltage Control, 45 % Duty Cycle, 0 to +70 degC, 16-pin SOIC (D), Green (RoHS & no Sb/Br); PartNumber: TL494CDRE4; Manufacturer: Texas Instruments; Duty Cycle(Max)(%): 45; Frequency(Max)(kHz): 300; Rating: Military; Regulated Outputs(#): 2; SubFamily: PWM Controller; Topology: Boost, Buck, Flyback, Forward, Full-Bridge, Half-Bridge, Push-Pull; DatasheetVersion: SLVS074E; PackageVersion: revM, Jun-2011; PackageReference: D16; PackageDescription: 16-Pin Plastic Small Outline Integrated Circuit, 9.9 x 3.9 mm, Pitch 1.27 mm Pitch; Supplier 1: Digi-Key; Supplier Part Number 1: TL494CDRE4-ND; Supplier 2: Newark; Supplier Part Number 2: 37K4539; Supplier 3: Mouser; Supplier Part Number 3: 595-TL494CDRE4; Control Method: Voltage; Eco-Plan: Green (RoHS & no Sb/Br); Mounting Technology: Surface Mount; Code_JEDEC: MS-012AC; ComponentLink1Description: Datasheet; ComponentLink1URL: http://www.ti.com/general/docs/lit/getliterature.tsp?genericPartNumber=TL494&fileType=pdf
footprint D16_N (SOIC, 16-Leads, Body 9.9x3.9mm, Pitch 1.27mm, IPC Medium Density)
footprint D16_L (SOIC, 16-Leads, Body 9.9x3.9mm, Pitch 1.27mm, IPC High Density)
footprint D16_M (SOIC, 16-Leads, Body 9.9x3.9mm, Pitch 1.27mm, IPC Low Density)
pins: 1 1IN+ (in), 2 1IN- (in), 3 FEEDBACK (in), 4 DTC (in), 5 CT, 6 RT, 7 GND (power), 8 C1, 9 E1, 10 E2, 11 C2, 12 VCC (power), 13 OUTPUT CTRL (in), 14 REF (out), 15 2IN- (in), 16 2IN+ (in)

## TL494CDRG3
designator U?
Pulse-Width-Modulation Control Circuit with Voltage Control, 45 % Duty Cycle, 0 to +70 degC, 16-pin SOIC (D); PartNumber: TL494CDRG3; Manufacturer: Texas Instruments; Duty Cycle(Max)(%): 45; Frequency(Max)(kHz): 300; Rating: Military; Regulated Outputs(#): 2; SubFamily: PWM Controller; Topology: Boost, Buck, Flyback, Forward, Full-Bridge, Half-Bridge, Push-Pull; DatasheetVersion: SLVS074E; PackageVersion: revM, Jun-2011; PackageReference: D16; PackageDescription: 16-Pin Plastic Small Outline Integrated Circuit, 9.9 x 3.9 mm, Pitch 1.27 mm Pitch; Supplier 1: Mouser; Supplier Part Number 1: N/A; Control Method: Voltage; Mounting Technology: Surface Mount; Code_JEDEC: MS-012AC; ComponentLink1Description: Datasheet; ComponentLink1URL: http://www.ti.com/general/docs/lit/getliterature.tsp?genericPartNumber=TL494&fileType=pdf
footprint D16_N (SOIC, 16-Leads, Body 9.9x3.9mm, Pitch 1.27mm, IPC Medium Density)
footprint D16_L (SOIC, 16-Leads, Body 9.9x3.9mm, Pitch 1.27mm, IPC High Density)
footprint D16_M (SOIC, 16-Leads, Body 9.9x3.9mm, Pitch 1.27mm, IPC Low Density)
pins: 1 1IN+ (in), 2 1IN- (in), 3 FEEDBACK (in), 4 DTC (in), 5 CT, 6 RT, 7 GND (power), 8 C1, 9 E1, 10 E2, 11 C2, 12 VCC (power), 13 OUTPUT CTRL (in), 14 REF (out), 15 2IN- (in), 16 2IN+ (in)

## TL494CDRG4
designator U?
Pulse-Width-Modulation Control Circuit with Voltage Control, 45 % Duty Cycle, 0 to +70 degC, 16-pin SOIC (D), Green (RoHS & no Sb/Br); PartNumber: TL494CDRG4; Manufacturer: Texas Instruments; Duty Cycle(Max)(%): 45; Frequency(Max)(kHz): 300; Rating: Military; Regulated Outputs(#): 2; SubFamily: PWM Controller; Topology: Boost, Buck, Flyback, Forward, Full-Bridge, Half-Bridge, Push-Pull; DatasheetVersion: SLVS074E; PackageVersion: revM, Jun-2011; PackageReference: D16; PackageDescription: 16-Pin Plastic Small Outline Integrated Circuit, 9.9 x 3.9 mm, Pitch 1.27 mm Pitch; Supplier 1: Digi-Key; Supplier Part Number 1: TL494CDRG4-ND; Supplier 2: Newark; Supplier Part Number 2: 41M5754; Supplier 3: Mouser; Supplier Part Number 3: 595-TL494CDRG4; Control Method: Voltage; Eco-Plan: Green (RoHS & no Sb/Br); Mounting Technology: Surface Mount; Code_JEDEC: MS-012AC; ComponentLink1Description: Datasheet; ComponentLink1URL: http://www.ti.com/general/docs/lit/getliterature.tsp?genericPartNumber=TL494&fileType=pdf
footprint D16_N (SOIC, 16-Leads, Body 9.9x3.9mm, Pitch 1.27mm, IPC Medium Density)
footprint D16_L (SOIC, 16-Leads, Body 9.9x3.9mm, Pitch 1.27mm, IPC High Density)
footprint D16_M (SOIC, 16-Leads, Body 9.9x3.9mm, Pitch 1.27mm, IPC Low Density)
pins: 1 1IN+ (in), 2 1IN- (in), 3 FEEDBACK (in), 4 DTC (in), 5 CT, 6 RT, 7 GND (power), 8 C1, 9 E1, 10 E2, 11 C2, 12 VCC (power), 13 OUTPUT CTRL (in), 14 REF (out), 15 2IN- (in), 16 2IN+ (in)

## TL494CN
designator U?
Pulse-Width-Modulation Control Circuit with Voltage Control, 45 % Duty Cycle, 0 to +70 degC, 16-pin PDIP (N), Pb-Free (RoHS); PartNumber: TL494CN; Manufacturer: Texas Instruments; Duty Cycle(Max)(%): 45; Frequency(Max)(kHz): 300; Rating: Military; Regulated Outputs(#): 2; SubFamily: PWM Controller; Topology: Boost, Buck, Flyback, Forward, Full-Bridge, Half-Bridge, Push-Pull; DatasheetVersion: SLVS074E; PackageVersion: revE, Dec-2002; PackageReference: N16; PackageDescription: 16-Pin Plastic Dual-In-Line Package, Row Spacing 7.62 mm, Pitch 2.54 mm; Supplier 1: Digi-Key; Supplier Part Number 1: 296-1799-5-ND; Supplier 2: Farnell; Supplier Part Number 2: 1106036; Supplier 3: Newark; Supplier Part Number 3: 60K6995; Supplier 4: Mouser; Supplier Part Number 4: 595-TL494CN; Control Method: Voltage; Eco-Plan: Pb-Free (RoHS); Mounting Technology: Through Hole; Code_JEDEC: MS-001*; ComponentLink1Description: Datasheet; ComponentLink1URL: http://www.ti.com/general/docs/lit/getliterature.tsp?genericPartNumber=TL494&fileType=pdf
footprint N16 (DIP, 16-Leads, Row Spacing 7.62mm, Pitch 2.54mm, Body 19.3x6.4mm)
pins: 1 1IN+ (in), 2 1IN- (in), 3 FEEDBACK (in), 4 DTC (in), 5 CT, 6 RT, 7 GND (power), 8 C1, 9 E1, 10 E2, 11 C2, 12 VCC (power), 13 OUTPUT CTRL (in), 14 REF (out), 15 2IN- (in), 16 2IN+ (in)

## TL494CNE4
designator U?
Pulse-Width-Modulation Control Circuit with Voltage Control, 45 % Duty Cycle, 0 to +70 degC, 16-pin PDIP (N), Pb-Free (RoHS); PartNumber: TL494CNE4; Manufacturer: Texas Instruments; Duty Cycle(Max)(%): 45; Frequency(Max)(kHz): 300; Rating: Military; Regulated Outputs(#): 2; SubFamily: PWM Controller; Topology: Boost, Buck, Flyback, Forward, Full-Bridge, Half-Bridge, Push-Pull; DatasheetVersion: SLVS074E; PackageVersion: revE, Dec-2002; PackageReference: N16; PackageDescription: 16-Pin Plastic Dual-In-Line Package, Row Spacing 7.62 mm, Pitch 2.54 mm; Supplier 1: Digi-Key; Supplier Part Number 1: TL494CNE4-ND; Supplier 2: Newark; Supplier Part Number 2: 40K9713; Supplier 3: Mouser; Supplier Part Number 3: 595-TL494CNE4; Control Method: Voltage; Eco-Plan: Pb-Free (RoHS); Mounting Technology: Through Hole; Code_JEDEC: MS-001*; ComponentLink1Description: Datasheet; ComponentLink1URL: http://www.ti.com/general/docs/lit/getliterature.tsp?genericPartNumber=TL494&fileType=pdf
footprint N16 (DIP, 16-Leads, Row Spacing 7.62mm, Pitch 2.54mm, Body 19.3x6.4mm)
pins: 1 1IN+ (in), 2 1IN- (in), 3 FEEDBACK (in), 4 DTC (in), 5 CT, 6 RT, 7 GND (power), 8 C1, 9 E1, 10 E2, 11 C2, 12 VCC (power), 13 OUTPUT CTRL (in), 14 REF (out), 15 2IN- (in), 16 2IN+ (in)

## TL494CNSR
designator U?
Pulse-Width-Modulation Control Circuit with Voltage Control, 45 % Duty Cycle, 0 to +70 degC, 16-pin SO (NS), Green (RoHS & no Sb/Br); PartNumber: TL494CNSR; Manufacturer: Texas Instruments; Duty Cycle(Max)(%): 45; Frequency(Max)(kHz): 300; Rating: Military; Regulated Outputs(#): 2; SubFamily: PWM Controller; Topology: Boost, Buck, Flyback, Forward, Full-Bridge, Half-Bridge, Push-Pull; DatasheetVersion: SLVS074E; PackageVersion: revC, Mar-2003; PackageReference: NS16; PackageDescription: 16-Pin Plastic Small Outline Package, 10.2 x 5.3 mm, Pitch 1.27 mm Pitch; Supplier 1: Digi-Key; Supplier Part Number 1: 296-10191-2-ND; Supplier 2: Digi-Key; Supplier Part Number 2: 296-10191-1-ND; Supplier 3: Digi-Key; Supplier Part Number 3: 296-10191-6-ND; Supplier 4: Farnell; Supplier Part Number 4: 1236538; Supplier 5: Newark; Supplier Part Number 5: 13M5596; Supplier 6: Newark; Supplier Part Number 6: 76C9273; Supplier 7: Mouser; Supplier Part Number 7: 595-TL494CNSR; Control Method: Voltage; Eco-Plan: Green (RoHS & no Sb/Br); Mounting Technology: Surface Mount; ComponentLink1Description: Datasheet; ComponentLink1URL: http://www.ti.com/general/docs/lit/getliterature.tsp?genericPartNumber=TL494&fileType=pdf
footprint NS16_N (SOP, 16-Leads, Body 10.2x5.3mm, Pitch 1.27mm, IPC Medium Density)
footprint NS16_L (SOP, 16-Leads, Body 10.2x5.3mm, Pitch 1.27mm, IPC High Density)
footprint NS16_M (SOP, 16-Leads, Body 10.2x5.3mm, Pitch 1.27mm, IPC Low Density)
pins: 1 1IN+ (in), 2 1IN- (in), 3 FEEDBACK (in), 4 DTC (in), 5 CT, 6 RT, 7 GND (power), 8 C1, 9 E1, 10 E2, 11 C2, 12 VCC (power), 13 OUTPUT CTRL (in), 14 REF (out), 15 2IN- (in), 16 2IN+ (in)

## TL494CNSRG4
designator U?
Pulse-Width-Modulation Control Circuit with Voltage Control, 45 % Duty Cycle, 0 to +70 degC, 16-pin SO (NS), Green (RoHS & no Sb/Br); PartNumber: TL494CNSRG4; Manufacturer: Texas Instruments; Duty Cycle(Max)(%): 45; Frequency(Max)(kHz): 300; Rating: Military; Regulated Outputs(#): 2; SubFamily: PWM Controller; Topology: Boost, Buck, Flyback, Forward, Full-Bridge, Half-Bridge, Push-Pull; DatasheetVersion: SLVS074E; PackageVersion: revC, Mar-2003; PackageReference: NS16; PackageDescription: 16-Pin Plastic Small Outline Package, 10.2 x 5.3 mm, Pitch 1.27 mm Pitch; Supplier 1: Digi-Key; Supplier Part Number 1: TL494CNSRG4-ND; Supplier 2: Newark; Supplier Part Number 2: 33K7472; Supplier 3: Mouser; Supplier Part Number 3: 595-TL494CNSRG4; Control Method: Voltage; Eco-Plan: Green (RoHS & no Sb/Br); Mounting Technology: Surface Mount; ComponentLink1Description: Datasheet; ComponentLink1URL: http://www.ti.com/general/docs/lit/getliterature.tsp?genericPartNumber=TL494&fileType=pdf
footprint NS16_N (SOP, 16-Leads, Body 10.2x5.3mm, Pitch 1.27mm, IPC Medium Density)
footprint NS16_L (SOP, 16-Leads, Body 10.2x5.3mm, Pitch 1.27mm, IPC High Density)
footprint NS16_M (SOP, 16-Leads, Body 10.2x5.3mm, Pitch 1.27mm, IPC Low Density)
pins: 1 1IN+ (in), 2 1IN- (in), 3 FEEDBACK (in), 4 DTC (in), 5 CT, 6 RT, 7 GND (power), 8 C1, 9 E1, 10 E2, 11 C2, 12 VCC (power), 13 OUTPUT CTRL (in), 14 REF (out), 15 2IN- (in), 16 2IN+ (in)

## TL494CPW
designator U?
Pulse-Width-Modulation Control Circuit with Voltage Control, 45 % Duty Cycle, 0 to +70 degC, 16-pin TSSOP (PW), Green (RoHS & no Sb/Br); PartNumber: TL494CPW; Manufacturer: Texas Instruments; Duty Cycle(Max)(%): 45; Frequency(Max)(kHz): 300; Rating: Military; Regulated Outputs(#): 2; SubFamily: PWM Controller; Topology: Boost, Buck, Flyback, Forward, Full-Bridge, Half-Bridge, Push-Pull; DatasheetVersion: SLVS074E; PackageVersion: revG, Feb-2011; PackageReference: PW16; PackageDescription: 16-Pin Plastic Thin Small Outline Package 5 x 4.4 mm Body ,0.65 mm Pitch; Supplier 1: Digi-Key; Supplier Part Number 1: 296-26722-5-ND; Supplier 2: Newark; Supplier Part Number 2: 02H5504; Supplier 3: Mouser; Supplier Part Number 3: 595-TL494CPW; Control Method: Voltage; Eco-Plan: Green (RoHS & no Sb/Br); Mounting Technology: Surface Mount; Code_JEDEC: MO-153; ComponentLink1Description: Datasheet; ComponentLink1URL: http://www.ti.com/general/docs/lit/getliterature.tsp?genericPartNumber=TL494&fileType=pdf
footprint PW16_N (TSOP, 16-Leads, Body 5x4.4mm, Pitch 0.65mm, IPC Medium Density)
footprint PW16_L (TSOP, 16-Leads, Body 5x4.4mm, Pitch 0.65mm, IPC High Density)
footprint PW16_M (TSOP, 16-Leads, Body 5x4.4mm, Pitch 0.65mm, IPC Low Density)
pins: 1 1IN+ (in), 2 1IN- (in), 3 FEEDBACK (in), 4 DTC (in), 5 CT, 6 RT, 7 GND (power), 8 C1, 9 E1, 10 E2, 11 C2, 12 VCC (power), 13 OUTPUT CTRL (in), 14 REF (out), 15 2IN- (in), 16 2IN+ (in)

## TL494CPWE4
designator U?
Pulse-Width-Modulation Control Circuit with Voltage Control, 45 % Duty Cycle, 0 to +70 degC, 16-pin TSSOP (PW), Green (RoHS & no Sb/Br); PartNumber: TL494CPWE4; Manufacturer: Texas Instruments; Duty Cycle(Max)(%): 45; Frequency(Max)(kHz): 300; Rating: Military; Regulated Outputs(#): 2; SubFamily: PWM Controller; Topology: Boost, Buck, Flyback, Forward, Full-Bridge, Half-Bridge, Push-Pull; DatasheetVersion: SLVS074E; PackageVersion: revG, Feb-2011; PackageReference: PW16; PackageDescription: 16-Pin Plastic Thin Small Outline Package 5 x 4.4 mm Body ,0.65 mm Pitch; Supplier 1: Digi-Key; Supplier Part Number 1: TL494CPWE4-ND; Supplier 2: Newark; Supplier Part Number 2: 69K0646; Supplier 3: Mouser; Supplier Part Number 3: 595-TL494CPWE4; Control Method: Voltage; Eco-Plan: Green (RoHS & no Sb/Br); Mounting Technology: Surface Mount; Code_JEDEC: MO-153; ComponentLink1Description: Datasheet; ComponentLink1URL: http://www.ti.com/general/docs/lit/getliterature.tsp?genericPartNumber=TL494&fileType=pdf
footprint PW16_N (TSOP, 16-Leads, Body 5x4.4mm, Pitch 0.65mm, IPC Medium Density)
footprint PW16_L (TSOP, 16-Leads, Body 5x4.4mm, Pitch 0.65mm, IPC High Density)
footprint PW16_M (TSOP, 16-Leads, Body 5x4.4mm, Pitch 0.65mm, IPC Low Density)
pins: 1 1IN+ (in), 2 1IN- (in), 3 FEEDBACK (in), 4 DTC (in), 5 CT, 6 RT, 7 GND (power), 8 C1, 9 E1, 10 E2, 11 C2, 12 VCC (power), 13 OUTPUT CTRL (in), 14 REF (out), 15 2IN- (in), 16 2IN+ (in)

## TL494CPWG4
designator U?
Pulse-Width-Modulation Control Circuit with Voltage Control, 45 % Duty Cycle, 0 to +70 degC, 16-pin TSSOP (PW), Green (RoHS & no Sb/Br); PartNumber: TL494CPWG4; Manufacturer: Texas Instruments; Duty Cycle(Max)(%): 45; Frequency(Max)(kHz): 300; Rating: Military; Regulated Outputs(#): 2; SubFamily: PWM Controller; Topology: Boost, Buck, Flyback, Forward, Full-Bridge, Half-Bridge, Push-Pull; DatasheetVersion: SLVS074E; PackageVersion: revG, Feb-2011; PackageReference: PW16; PackageDescription: 16-Pin Plastic Thin Small Outline Package 5 x 4.4 mm Body ,0.65 mm Pitch; Supplier 1: Digi-Key; Supplier Part Number 1: TL494CPWG4-ND; Supplier 2: Newark; Supplier Part Number 2: 40K9714; Supplier 3: Mouser; Supplier Part Number 3: 595-TL494CPWG4; Control Method: Voltage; Eco-Plan: Green (RoHS & no Sb/Br); Mounting Technology: Surface Mount; Code_JEDEC: MO-153; ComponentLink1Description: Datasheet; ComponentLink1URL: http://www.ti.com/general/docs/lit/getliterature.tsp?genericPartNumber=TL494&fileType=pdf
footprint PW16_N (TSOP, 16-Leads, Body 5x4.4mm, Pitch 0.65mm, IPC Medium Density)
footprint PW16_L (TSOP, 16-Leads, Body 5x4.4mm, Pitch 0.65mm, IPC High Density)
footprint PW16_M (TSOP, 16-Leads, Body 5x4.4mm, Pitch 0.65mm, IPC Low Density)
pins: 1 1IN+ (in), 2 1IN- (in), 3 FEEDBACK (in), 4 DTC (in), 5 CT, 6 RT, 7 GND (power), 8 C1, 9 E1, 10 E2, 11 C2, 12 VCC (power), 13 OUTPUT CTRL (in), 14 REF (out), 15 2IN- (in), 16 2IN+ (in)

## TL494CPWR
designator U?
Pulse-Width-Modulation Control Circuit with Voltage Control, 45 % Duty Cycle, 0 to +70 degC, 16-pin TSSOP (PW), Green (RoHS & no Sb/Br); PartNumber: TL494CPWR; Manufacturer: Texas Instruments; Duty Cycle(Max)(%): 45; Frequency(Max)(kHz): 300; Rating: Military; Regulated Outputs(#): 2; SubFamily: PWM Controller; Topology: Boost, Buck, Flyback, Forward, Full-Bridge, Half-Bridge, Push-Pull; DatasheetVersion: SLVS074E; PackageVersion: revG, Feb-2011; PackageReference: PW16; PackageDescription: 16-Pin Plastic Thin Small Outline Package 5 x 4.4 mm Body ,0.65 mm Pitch; Supplier 1: Digi-Key; Supplier Part Number 1: 296-10192-2-ND; Supplier 2: Digi-Key; Supplier Part Number 2: 296-10192-1-ND; Supplier 3: Digi-Key; Supplier Part Number 3: 296-10192-6-ND; Supplier 4: Newark; Supplier Part Number 4: 76C9274; Supplier 5: Mouser; Supplier Part Number 5: 595-TL494CPWR; Control Method: Voltage; Eco-Plan: Green (RoHS & no Sb/Br); Mounting Technology: Surface Mount; Code_JEDEC: MO-153; ComponentLink1Description: Datasheet; ComponentLink1URL: http://www.ti.com/general/docs/lit/getliterature.tsp?genericPartNumber=TL494&fileType=pdf
footprint PW16_N (TSOP, 16-Leads, Body 5x4.4mm, Pitch 0.65mm, IPC Medium Density)
footprint PW16_L (TSOP, 16-Leads, Body 5x4.4mm, Pitch 0.65mm, IPC High Density)
footprint PW16_M (TSOP, 16-Leads, Body 5x4.4mm, Pitch 0.65mm, IPC Low Density)
pins: 1 1IN+ (in), 2 1IN- (in), 3 FEEDBACK (in), 4 DTC (in), 5 CT, 6 RT, 7 GND (power), 8 C1, 9 E1, 10 E2, 11 C2, 12 VCC (power), 13 OUTPUT CTRL (in), 14 REF (out), 15 2IN- (in), 16 2IN+ (in)

## TL494CPWRE4
designator U?
Pulse-Width-Modulation Control Circuit with Voltage Control, 45 % Duty Cycle, 0 to +70 degC, 16-pin TSSOP (PW), Green (RoHS & no Sb/Br); PartNumber: TL494CPWRE4; Manufacturer: Texas Instruments; Duty Cycle(Max)(%): 45; Frequency(Max)(kHz): 300; Rating: Military; Regulated Outputs(#): 2; SubFamily: PWM Controller; Topology: Boost, Buck, Flyback, Forward, Full-Bridge, Half-Bridge, Push-Pull; DatasheetVersion: SLVS074E; PackageVersion: revG, Feb-2011; PackageReference: PW16; PackageDescription: 16-Pin Plastic Thin Small Outline Package 5 x 4.4 mm Body ,0.65 mm Pitch; Supplier 1: Digi-Key; Supplier Part Number 1: TL494CPWRE4-ND; Supplier 2: Newark; Supplier Part Number 2: 69K0647; Supplier 3: Mouser; Supplier Part Number 3: 595-TL494CPWRE4; Control Method: Voltage; Eco-Plan: Green (RoHS & no Sb/Br); Mounting Technology: Surface Mount; Code_JEDEC: MO-153; ComponentLink1Description: Datasheet; ComponentLink1URL: http://www.ti.com/general/docs/lit/getliterature.tsp?genericPartNumber=TL494&fileType=pdf
footprint PW16_N (TSOP, 16-Leads, Body 5x4.4mm, Pitch 0.65mm, IPC Medium Density)
footprint PW16_L (TSOP, 16-Leads, Body 5x4.4mm, Pitch 0.65mm, IPC High Density)
footprint PW16_M (TSOP, 16-Leads, Body 5x4.4mm, Pitch 0.65mm, IPC Low Density)
pins: 1 1IN+ (in), 2 1IN- (in), 3 FEEDBACK (in), 4 DTC (in), 5 CT, 6 RT, 7 GND (power), 8 C1, 9 E1, 10 E2, 11 C2, 12 VCC (power), 13 OUTPUT CTRL (in), 14 REF (out), 15 2IN- (in), 16 2IN+ (in)

## TL494CPWRG4
designator U?
Pulse-Width-Modulation Control Circuit with Voltage Control, 45 % Duty Cycle, 0 to +70 degC, 16-pin TSSOP (PW), Green (RoHS & no Sb/Br); PartNumber: TL494CPWRG4; Manufacturer: Texas Instruments; Duty Cycle(Max)(%): 45; Frequency(Max)(kHz): 300; Rating: Military; Regulated Outputs(#): 2; SubFamily: PWM Controller; Topology: Boost, Buck, Flyback, Forward, Full-Bridge, Half-Bridge, Push-Pull; DatasheetVersion: SLVS074E; PackageVersion: revG, Feb-2011; PackageReference: PW16; PackageDescription: 16-Pin Plastic Thin Small Outline Package 5 x 4.4 mm Body ,0.65 mm Pitch; Supplier 1: Digi-Key; Supplier Part Number 1: TL494CPWRG4-ND; Supplier 2: Newark; Supplier Part Number 2: 40K9715; Supplier 3: Mouser; Supplier Part Number 3: 595-TL494CPWRG4; Control Method: Voltage; Eco-Plan: Green (RoHS & no Sb/Br); Mounting Technology: Surface Mount; Code_JEDEC: MO-153; ComponentLink1Description: Datasheet; ComponentLink1URL: http://www.ti.com/general/docs/lit/getliterature.tsp?genericPartNumber=TL494&fileType=pdf
footprint PW16_N (TSOP, 16-Leads, Body 5x4.4mm, Pitch 0.65mm, IPC Medium Density)
footprint PW16_L (TSOP, 16-Leads, Body 5x4.4mm, Pitch 0.65mm, IPC High Density)
footprint PW16_M (TSOP, 16-Leads, Body 5x4.4mm, Pitch 0.65mm, IPC Low Density)
pins: 1 1IN+ (in), 2 1IN- (in), 3 FEEDBACK (in), 4 DTC (in), 5 CT, 6 RT, 7 GND (power), 8 C1, 9 E1, 10 E2, 11 C2, 12 VCC (power), 13 OUTPUT CTRL (in), 14 REF (out), 15 2IN- (in), 16 2IN+ (in)

## TL494ID
designator U?
Pulse-Width-Modulation Control Circuit with Voltage Control, 45 % Duty Cycle, -40 to +85 degC, 16-pin SOIC (D), Green (RoHS & no Sb/Br); PartNumber: TL494ID; Manufacturer: Texas Instruments; Duty Cycle(Max)(%): 45; Frequency(Max)(kHz): 300; Rating: Military; Regulated Outputs(#): 2; SubFamily: PWM Controller; Topology: Boost, Buck, Flyback, Forward, Full-Bridge, Half-Bridge, Push-Pull; DatasheetVersion: SLVS074E; PackageVersion: revM, Jun-2011; PackageReference: D16; PackageDescription: 16-Pin Plastic Small Outline Integrated Circuit, 9.9 x 3.9 mm, Pitch 1.27 mm Pitch; Supplier 1: Digi-Key; Supplier Part Number 1: 296-10193-5-ND; Supplier 2: Farnell; Supplier Part Number 2: 1491489; Supplier 3: Newark; Supplier Part Number 3: 52F2762; Supplier 4: Mouser; Supplier Part Number 4: 595-TL494ID; Control Method: Voltage; Eco-Plan: Green (RoHS & no Sb/Br); Mounting Technology: Surface Mount; Code_JEDEC: MS-012AC; ComponentLink1Description: Datasheet; ComponentLink1URL: http://www.ti.com/general/docs/lit/getliterature.tsp?genericPartNumber=TL494&fileType=pdf
footprint D16_N (SOIC, 16-Leads, Body 9.9x3.9mm, Pitch 1.27mm, IPC Medium Density)
footprint D16_L (SOIC, 16-Leads, Body 9.9x3.9mm, Pitch 1.27mm, IPC High Density)
footprint D16_M (SOIC, 16-Leads, Body 9.9x3.9mm, Pitch 1.27mm, IPC Low Density)
pins: 1 1IN+ (in), 2 1IN- (in), 3 FEEDBACK (in), 4 DTC (in), 5 CT, 6 RT, 7 GND (power), 8 C1, 9 E1, 10 E2, 11 C2, 12 VCC (power), 13 OUTPUT CTRL (in), 14 REF (out), 15 2IN- (in), 16 2IN+ (in)

## TL494IDE4
designator U?
Pulse-Width-Modulation Control Circuit with Voltage Control, 45 % Duty Cycle, -40 to +85 degC, 16-pin SOIC (D), Green (RoHS & no Sb/Br); PartNumber: TL494IDE4; Manufacturer: Texas Instruments; Duty Cycle(Max)(%): 45; Frequency(Max)(kHz): 300; Rating: Military; Regulated Outputs(#): 2; SubFamily: PWM Controller; Topology: Boost, Buck, Flyback, Forward, Full-Bridge, Half-Bridge, Push-Pull; DatasheetVersion: SLVS074E; PackageVersion: revM, Jun-2011; PackageReference: D16; PackageDescription: 16-Pin Plastic Small Outline Integrated Circuit, 9.9 x 3.9 mm, Pitch 1.27 mm Pitch; Supplier 1: Digi-Key; Supplier Part Number 1: TL494IDE4-ND; Supplier 2: Newark; Supplier Part Number 2: 37K4540; Supplier 3: Mouser; Supplier Part Number 3: 595-TL494IDE4; Control Method: Voltage; Eco-Plan: Green (RoHS & no Sb/Br); Mounting Technology: Surface Mount; Code_JEDEC: MS-012AC; ComponentLink1Description: Datasheet; ComponentLink1URL: http://www.ti.com/general/docs/lit/getliterature.tsp?genericPartNumber=TL494&fileType=pdf
footprint D16_N (SOIC, 16-Leads, Body 9.9x3.9mm, Pitch 1.27mm, IPC Medium Density)
footprint D16_L (SOIC, 16-Leads, Body 9.9x3.9mm, Pitch 1.27mm, IPC High Density)
footprint D16_M (SOIC, 16-Leads, Body 9.9x3.9mm, Pitch 1.27mm, IPC Low Density)
pins: 1 1IN+ (in), 2 1IN- (in), 3 FEEDBACK (in), 4 DTC (in), 5 CT, 6 RT, 7 GND (power), 8 C1, 9 E1, 10 E2, 11 C2, 12 VCC (power), 13 OUTPUT CTRL (in), 14 REF (out), 15 2IN- (in), 16 2IN+ (in)

## TL494IDG4
designator U?
Pulse-Width-Modulation Control Circuit with Voltage Control, 45 % Duty Cycle, -40 to +85 degC, 16-pin SOIC (D), Green (RoHS & no Sb/Br); PartNumber: TL494IDG4; Manufacturer: Texas Instruments; Duty Cycle(Max)(%): 45; Frequency(Max)(kHz): 300; Rating: Military; Regulated Outputs(#): 2; SubFamily: PWM Controller; Topology: Boost, Buck, Flyback, Forward, Full-Bridge, Half-Bridge, Push-Pull; DatasheetVersion: SLVS074E; PackageVersion: revM, Jun-2011; PackageReference: D16; PackageDescription: 16-Pin Plastic Small Outline Integrated Circuit, 9.9 x 3.9 mm, Pitch 1.27 mm Pitch; Supplier 1: Digi-Key; Supplier Part Number 1: TL494IDG4-ND; Supplier 2: Farnell; Supplier Part Number 2: 9593632; Supplier 3: Newark; Supplier Part Number 3: 98K1694; Supplier 4: Newark; Supplier Part Number 4: 41M5755; Supplier 5: Mouser; Supplier Part Number 5: 595-TL494IDG4; Control Method: Voltage; Eco-Plan: Green (RoHS & no Sb/Br); Mounting Technology: Surface Mount; Code_JEDEC: MS-012AC; ComponentLink1Description: Datasheet; ComponentLink1URL: http://www.ti.com/general/docs/lit/getliterature.tsp?genericPartNumber=TL494&fileType=pdf
footprint D16_N (SOIC, 16-Leads, Body 9.9x3.9mm, Pitch 1.27mm, IPC Medium Density)
footprint D16_L (SOIC, 16-Leads, Body 9.9x3.9mm, Pitch 1.27mm, IPC High Density)
footprint D16_M (SOIC, 16-Leads, Body 9.9x3.9mm, Pitch 1.27mm, IPC Low Density)
pins: 1 1IN+ (in), 2 1IN- (in), 3 FEEDBACK (in), 4 DTC (in), 5 CT, 6 RT, 7 GND (power), 8 C1, 9 E1, 10 E2, 11 C2, 12 VCC (power), 13 OUTPUT CTRL (in), 14 REF (out), 15 2IN- (in), 16 2IN+ (in)

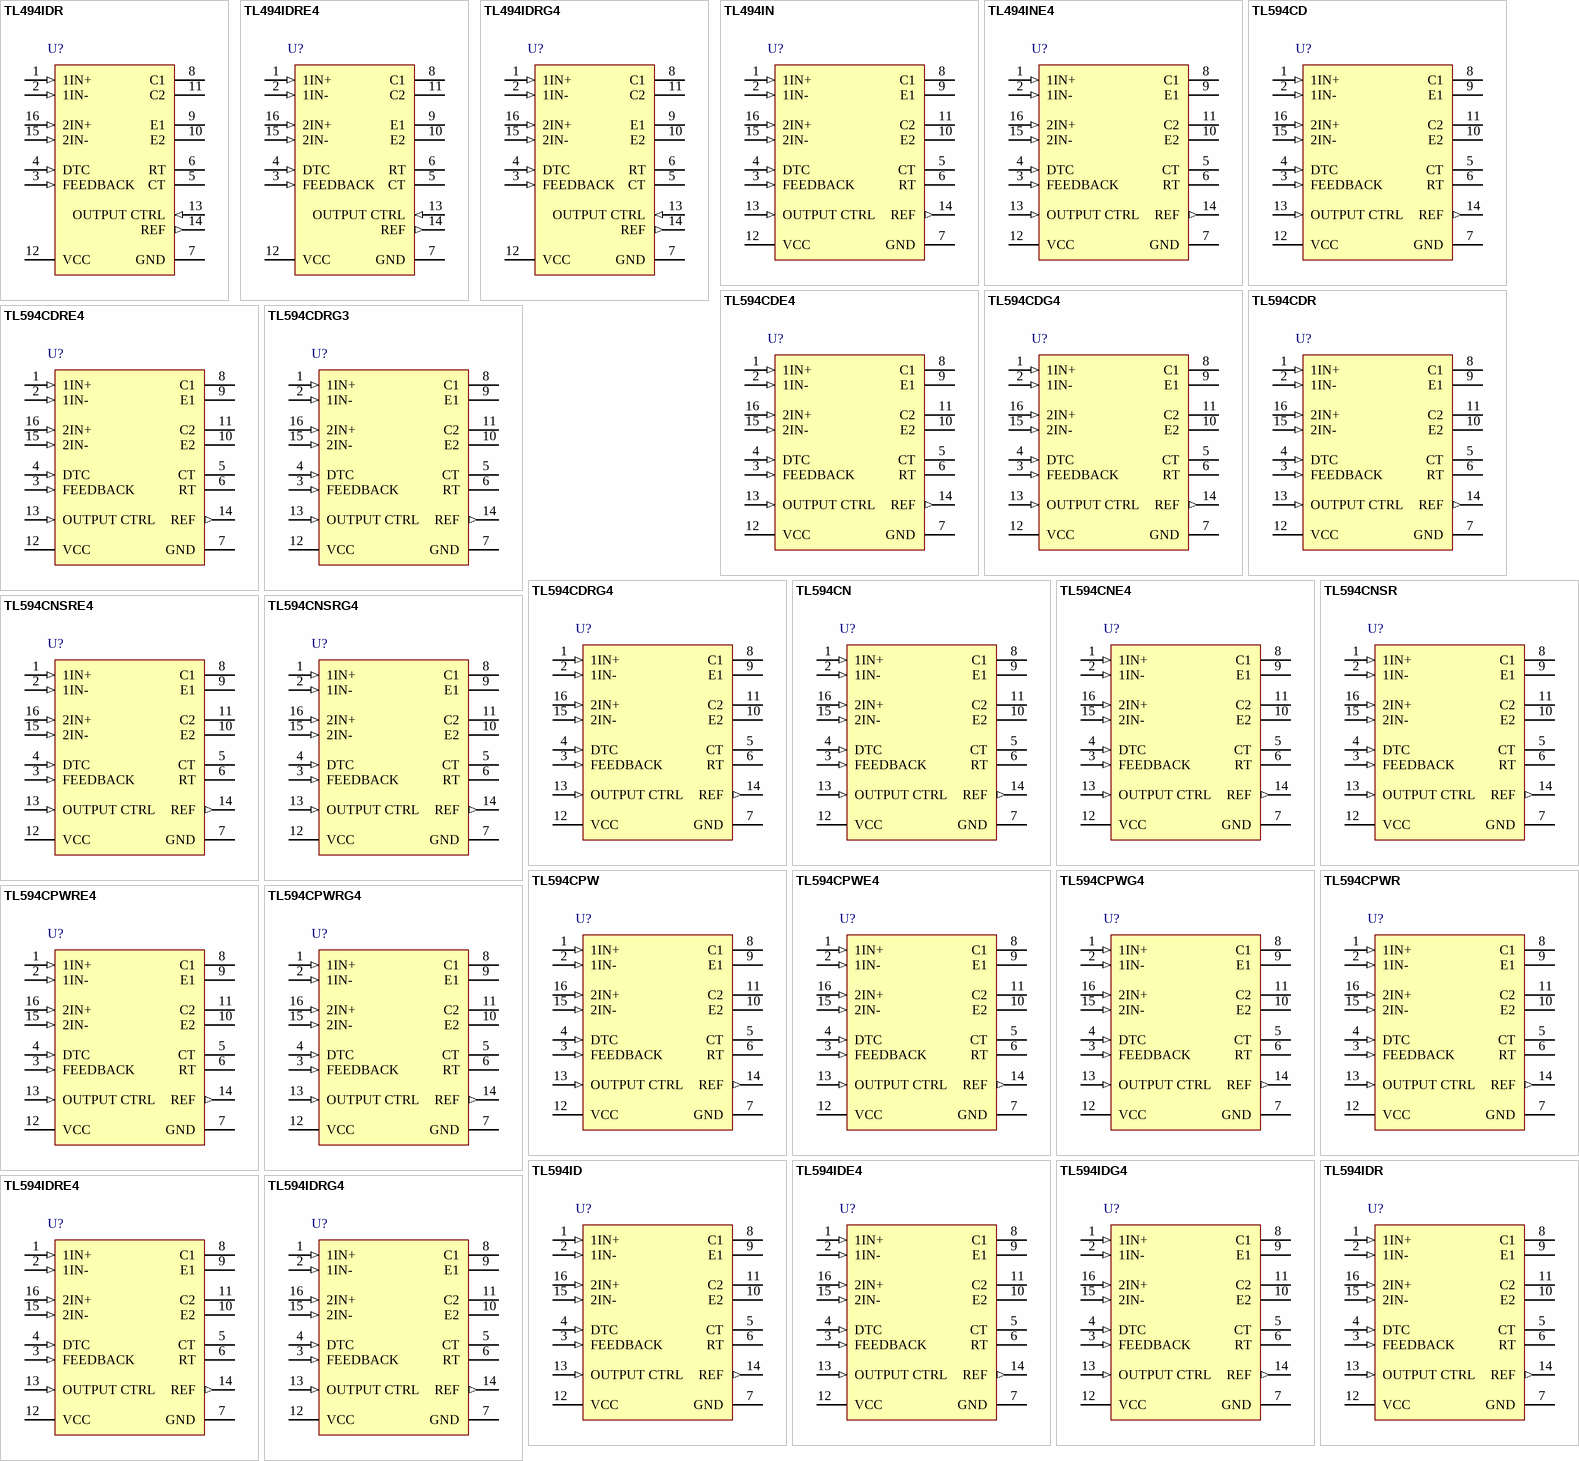
[diagram p5: symbols TL494IDR to TL594IDRG4]